# EAGLE library part LM393 (library ti)
Comparators Dual 2V-36V Supply Texas Instruments
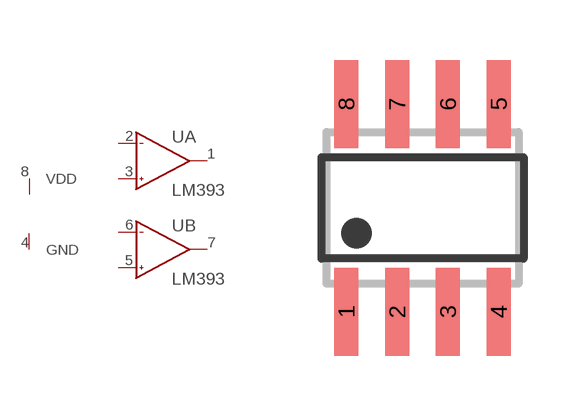
[diagram p2: symbol with the pads of SO-08; footprint SO-08]

Designator prefix -; gates A=COMPARATORS B=COMPARATORS P=PWRN

## LM393  [SO-08]
1  A:OUT  out
2  A:-  in
3  A:+  in
4  P:GND  pwr
5  B:+  in
6  B:-  in
7  B:OUT  out
8  P:VDD  pwr

## Footprint SO-08 (pad centres in mm)
Small Outline Integrated Circuit
smd 0.6 x 2.2: 1 -1.905,-2.6; 2 -0.635,-2.6; 3 0.635,-2.6; 4 1.905,-2.6; 5 1.905,2.6; 6 0.635,2.6; 7 -0.635,2.6; 8 -1.905,2.6